# EAGLE library part 691313510019 (library Wurth_Elektronik_Electromechanic_Terminal_Blocks_Connectors_rev15c)
WR-TBL Serie 313 - 5.08 mm Close Horizontal PCB Header , 19 Pins=>Code : Con_TBL_Pluggable_5.08_PCB_THT_Simple_H_691313510019 <http://katalog.we-online.de/media/images/eican/Con_TBL_Pluggable_5.08_PCB_THT_Simple_H_6913135100xx_pf2.jpg> Details see: http://katalog.we-online.de/en/em/691_313_510_0xx Created 2014-06-25, Karrer Zheng 2014 (C) Würth Elektronik
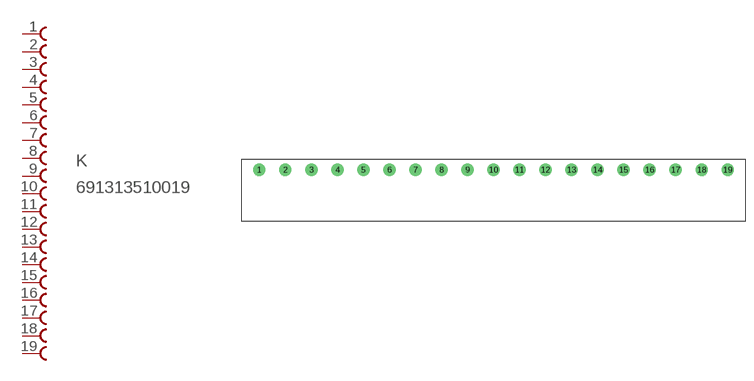
[diagram p125: symbol with the pads of 691313510019; footprint 691313510019]

Designator prefix K

## 691313510019  [691313510019]
1  1  pas
2  2  pas
3  3  pas
4  4  pas
5  5  pas
6  6  pas
7  7  pas
8  8  pas
9  9  pas
10  10  pas
11  11  pas
12  12  pas
13  13  pas
14  14  pas
15  15  pas
16  16  pas
17  17  pas
18  18  pas
19  19  pas

## Footprint 691313510019 (pad centres in mm)
WR-TBL Serie 313 - 5.08 mm Close Horizontal PCB Header , 19 Pins
drill 1.6: 1 -60.96,0; 2 -55.88,0; 3 -50.8,0; 4 -45.72,0; 5 -40.64,0; 6 -35.56,0; 7 -30.48,0; 8 -25.4,0; 9 -20.32,0; 10 -15.24,0; 11 -10.16,0; 12 -5.08,0; 13 0,0; 14 5.08,0; 15 10.16,0; 16 15.24,0; 17 20.32,0; 18 25.4,0; 19 30.48,0